# EAGLE library part ACS712 (library custom)
Current Sensor Bidirectional Hall Effect 5-30A, DC-80kHz, AC or DC Input Isolated
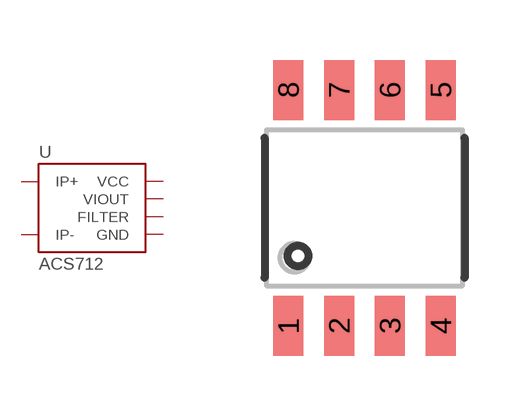
[diagram p115: symbol with the pads of 8-SOIC; footprint 8-SOIC]

Designator prefix U

## ACS712  [8-SOIC]
1  IP+
2  IP+
3  IP-
4  IP-
5  GND
6  FILTER
7  VIOUT
8  VCC

## Footprint 8-SOIC (pad centres in mm)
smd 0.75 x 1.5: 1 -1.905,-2.95; 2 -0.635,-2.95; 3 0.635,-2.95; 4 1.905,-2.95; 5 1.905,2.95; 6 0.635,2.95; 7 -0.635,2.95; 8 -1.905,2.95